# Altium schematic symbol library резисторы.SchLib: 29 symbols
Pins are listed as number, name and electrical type; pins without a type are passive.

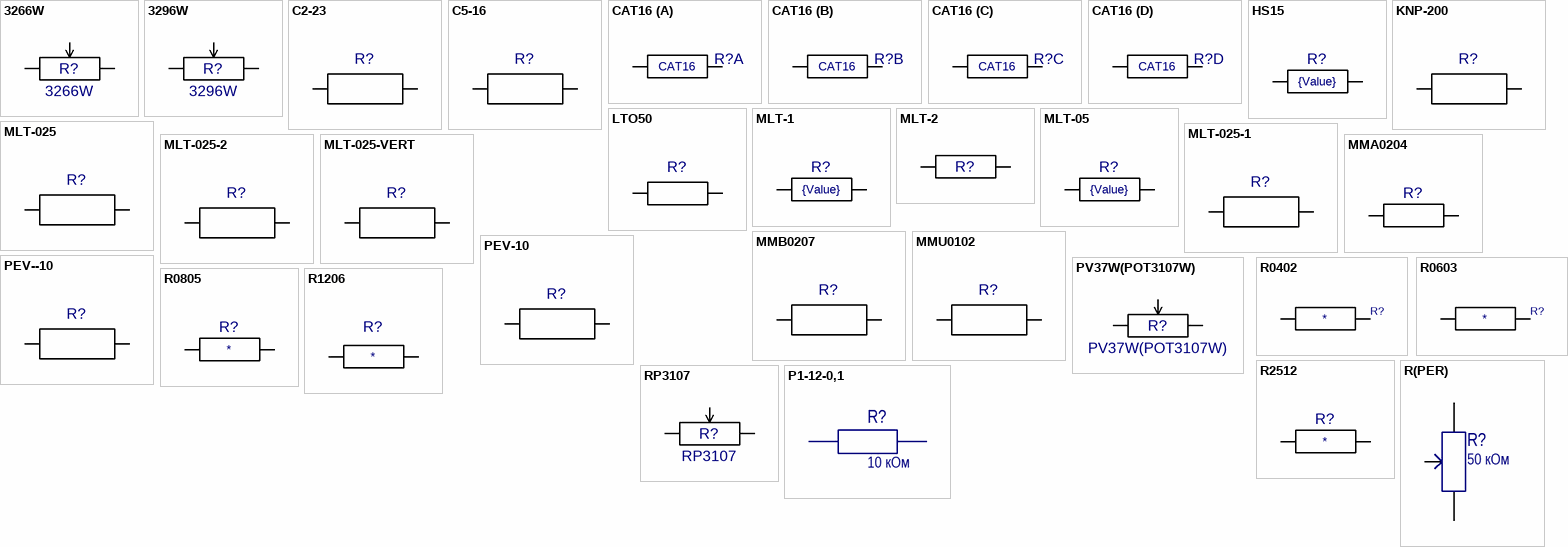
[diagram p0: symbols 3266W to Р1-12-0,1]

## 3266W
designator R?
Value: *
footprint 3266W
pins: 1, 2, 3

## 3296W
designator R?
Value: *
footprint 3296W
pins: 1, 2, 3

## C2-23
designator R?  (value not drawn)
Value: *
footprint RES400
pins: 1, 2

## C5-16
designator R?  (value not drawn)
Value: *
footprint C5-16
pins: 1, 2

## CAT16
designator R?
Part Number: CAT16; Value: CAT16
footprint CAT16
part A pins: 1, 2
part B pins: 3 1, 4 2
part C pins: 5 1, 6 2
part D pins: 7 1, 8 2

## HS15
designator R?  value {Value}  (hidden comment: HS15)
footprint HS15
pins: 1, 2, 3 hidden, 4 hidden

## KNP-200
designator R?  (value not drawn)
Value: *
footprint KNP-200
pins: 1, 2

## LTO50
designator R?  (value not drawn)
Value: *
footprint LTO50
pins: 1, 2

## MLT-1
designator R?  value {Value}  (hidden comment: MLT-1)
footprint MLT-1
pins: 1, 2

## MLT-2
designator R?  (value not drawn)
Value: *
footprint MLT-2
pins: 1, 2

## MLT-05
designator R?  value {Value}  (hidden comment: MLT-05)
footprint MLT-05
pins: 1, 2

## MLT-025
designator R?  (value not drawn)
Value: *
footprint RES400
pins: 1, 2

## MLT-025-1
designator R?  (value not drawn)
Value: *
footprint MLT-025-1
pins: 1, 2

## MLT-025-2
designator R?  (value not drawn)
Value: *
footprint MLT-025-2
pins: 1, 2

## MLT-025-VERT
designator R?  (value not drawn)
Value: *
footprint RES-VER
pins: 1, 2

## MMA0204
designator R?  (value not drawn)
Value: {Value}
footprint MMA0204_PAT
pins: 1, 2

## MMB0207
designator R?  (value not drawn)
Value: *
footprint MMB0207
pins: 1, 2

## MMU0102
designator R?  (value not drawn)
Value: *
footprint MMU0102
pins: 1, 2

## PEV-10
designator R?  (value not drawn)
Value: *
footprint PEV-10
pins: 1, 2

## PEV--10
designator R?  (value not drawn)
Value: *
footprint PEV--10
pins: 1, 2

## PV37W(POT3107W)
designator R?
Value: *
footprint 3107
pins: 1, 2, 3

## R0402
designator R?  (value not drawn)
Value: *
footprint 0402_RES (Резистор 0402(1005))
pins: 1, 2

## R0603
designator R?  (value not drawn)
Value: *
footprint 0603_RES (Резистор 0603(1608))
pins: 1, 2

## R0805
designator R?  (value not drawn)
Value: *
footprint 0805_RES (Резистор 0805(2012))
pins: 1, 2

## R1206
designator R?  (value not drawn)
Value: *
footprint 1206_RES (Резистор 1206(3216))
pins: 1, 2

## R2512
designator R?  (value not drawn)
Value: *
footprint R2512
pins: 1, 2

## R(PER)
designator R?, comment 50 кОм
R(PER); Value: *
footprint R(PER)
pins: 1 0, 2 1, 3 2

## RP3107
designator R?
Value: *
footprint 3107
pins: 1, 2, 3

## Р1-12-0,1
designator R?, comment 10 кОм
R_0603; ManufacturerPartNumber: Р1-12-0,1; cell: *; Manufacturer: *; Voltage: *; Power: *; Current: *; Tolerance: *; Value: 10 кОм
footprint 0603_RES (Резистор 0603(1608))
pins: 1, 2